# Altium footprint library 3POL_SMD0603.PcbLib: 1 footprints
Each footprint in its own frame and in the unit in brackets; x right, y up, seen from the top. Pads: shape width x height; smd on the part's side, far side on the other; paste and mask are expansions set on the pad; w line width, h text height; cw(c..) or ccw(c..) is an arc to the next point about the centre after c.
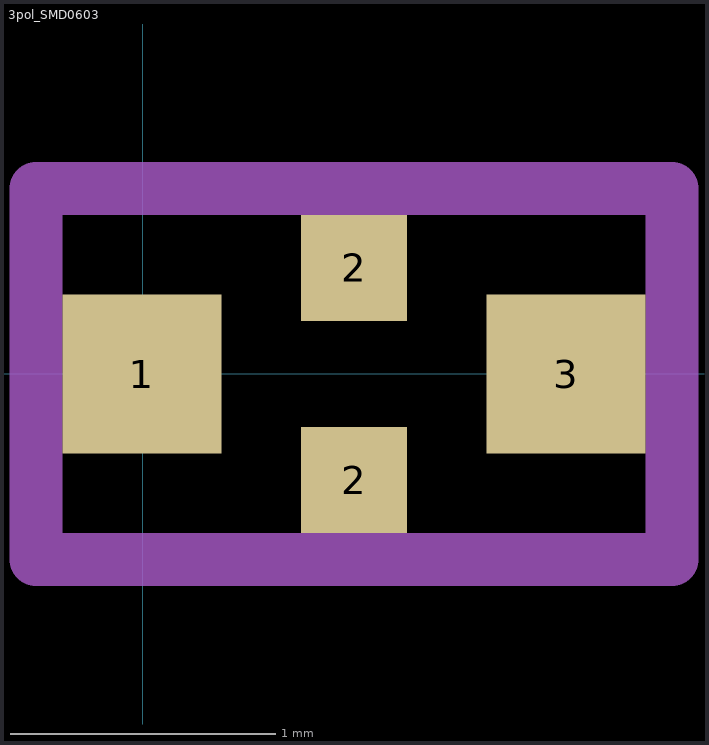
[diagram p0: the footprint, top view; thin cyan lines are the x and y axes]

## 3pol_SMD0603 [mm]
pads (4):
  rect 0.6x0.6 smd paste+0 mask+0: 1(-0.004,0) 3(1.596,0)
  rect 0.4x0.4 smd paste+0 mask+0: 2(0.796,-0.4) 2(0.796,0.4)
Top Courtyard:
  lines w0.2: -0.404,-0.7 1.996,-0.7 1.996,0.7 -0.404,0.7 -0.404,-0.7
3D body "Cap_Murata_NFM18PC474R0J3D_eec.STEP": height 0.7, standoff 0, extent -0.004,-0.4 1.596,0.4